# Altium footprint library SOP14P65_500X640X120L62X24N.PcbLib: 1 footprints
Each footprint in its own frame and in the unit in brackets; x right, y up, seen from the top. Pads: shape width x height; smd on the part's side, far side on the other; paste and mask are expansions set on the pad; w line width, h text height; cw(c..) or ccw(c..) is an arc to the next point about the centre after c.
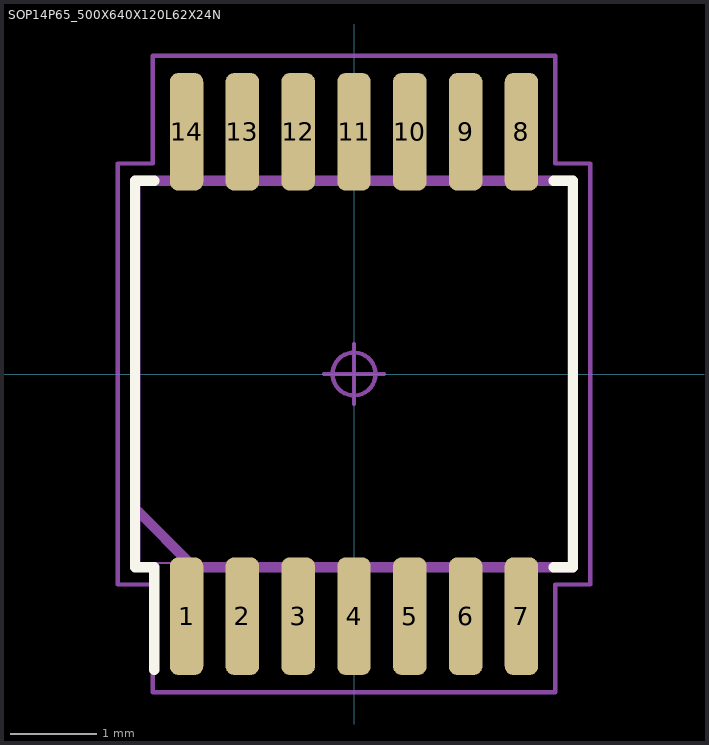
[diagram p0: the footprint, top view; thin cyan lines are the x and y axes]

## SOP14P65_500X640X120L62X24N [mm] "Small Outline Pkg (SOP), 0.65 mm pitch; 14 pin, 5.00 mm L X 4.40 mm W X 1.20 mm H body"
height 1.2
pads (14):
  rrect51% 0.39x1.37 smd: 1(-1.95,-2.82) 2(-1.3,-2.82) 3(-0.65,-2.82) 4(0,-2.82) 5(0.65,-2.82) 6(1.3,-2.82) 7(1.95,-2.82) 8(1.95,2.82) 9(1.3,2.82) 10(0.65,2.82) 11(0,2.82) 12(-0.65,2.82) 13(-1.3,2.82) 14(-1.95,2.82)
Top Overlay:
  lines w0.12: -2.325,-3.445 -2.325,-2.25 -2.55,-2.25 -2.55,2.25 -2.325,2.25 ; 2.325,-2.25 2.55,-2.25 2.55,2.25 2.325,2.25
Mechanical 3:
  lines w0.12: -2.55,-1.565 -2.55,2.25 2.55,2.25 2.55,-2.25 -1.865,-2.25 -2.55,-1.565
Mechanical 5:
  lines w0.025: -2.5,-2.2 2.5,-2.2 2.5,2.2 -2.5,2.2 -2.5,-2.2 ; -2.073,-3.2 -2.073,-2.575 -1.827,-2.575 -1.827,-3.2 -2.073,-3.2 ; -2.073,2.575 -2.073,3.2 -1.827,3.2 -1.827,2.575 -2.073,2.575 ; -1.422,-3.2 -1.422,-2.575 -1.178,-2.575 -1.178,-3.2 -1.422,-3.2 ; -1.422,2.575 -1.422,3.2 -1.178,3.2 -1.178,2.575 -1.422,2.575 ; -0.773,-3.2 -0.773,-2.575 -0.527,-2.575 -0.527,-3.2 -0.773,-3.2 ; -0.773,2.575 -0.773,3.2 -0.527,3.2 -0.527,2.575 -0.773,2.575 ; -0.122,-3.2 -0.122,-2.575 0.122,-2.575 0.122,-3.2 -0.122,-3.2 ; -0.122,2.575 -0.122,3.2 0.122,3.2 0.122,2.575 -0.122,2.575 ; 0.527,-3.2 0.527,-2.575 0.773,-2.575 0.773,-3.2 0.527,-3.2 ; 0.527,2.575 0.527,3.2 0.773,3.2 0.773,2.575 0.527,2.575 ; 1.178,-3.2 1.178,-2.575 1.422,-2.575 1.422,-3.2 1.178,-3.2 ; 1.178,2.575 1.178,3.2 1.422,3.2 1.422,2.575 1.178,2.575 ; 1.827,-3.2 1.827,-2.575 2.073,-2.575 2.073,-3.2 1.827,-3.2 ; 1.827,2.575 1.827,3.2 2.073,3.2 2.073,2.575 1.827,2.575
Mechanical 7:
  circle w0.05: c0,0 r0.25
  lines w0.05: -0.35,0 0.35,0 ; 0,-0.35 0,0.35 ; -2.75,-2.45 -2.345,-2.45 -2.345,-3.705 2.345,-3.705 2.345,-2.45 2.75,-2.45 2.75,2.45 2.345,2.45 2.345,3.705 -2.345,3.705 -2.345,2.45 -2.75,2.45 -2.75,-2.45
Mechanical 9:
  text "'.Designator'" at -5.588,-0.559 h1
3D body: height 0.03, standoff 0, extent -2.743,-3.708 2.743,3.708
3D body "SOP14P65_500X640X120L62X24.STEP": height 1.2, standoff 0, extent -2.5,-3.2 2.5,3.2
3D body: height 1.04, standoff 0, extent -2.75,-3.705 2.75,3.705